# Altium footprint library PCB - LEADED - SOT-23 - TI SOT-23-16 DYY0016A.PcbLib: 1 footprints
Each footprint in its own frame and in the unit in brackets; x right, y up, seen from the top. Pads: shape width x height; smd on the part's side, far side on the other; paste and mask are expansions set on the pad; w line width, h text height; cw(c..) or ccw(c..) is an arc to the next point about the centre after c.
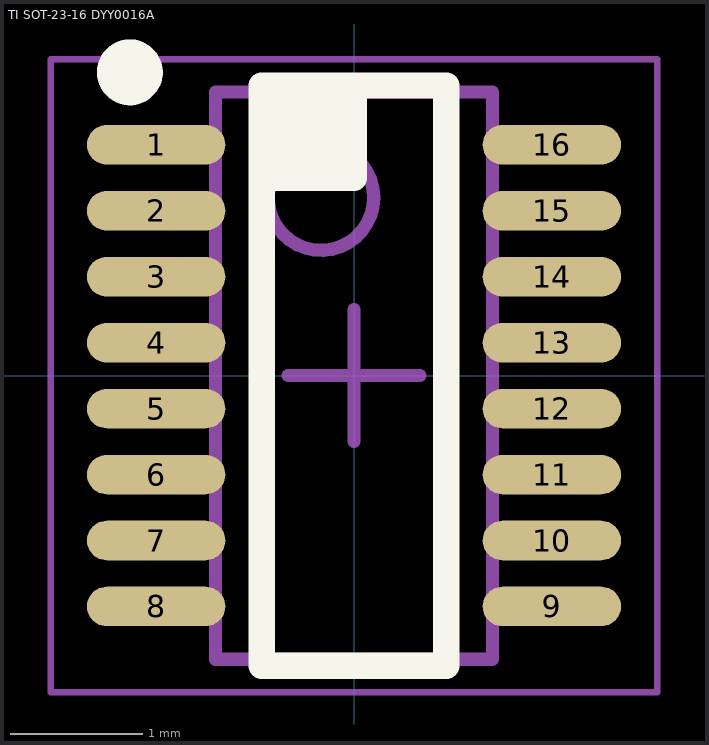
[diagram p0: the footprint, top view; thin cyan lines are the x and y axes]

## TI SOT-23-16 DYY0016A [mm] "SOT-23-THIN, 16-Leads, Body 4.20x2.00mm, Pitch 0.50mm"
height 1.1
pads (16):
  oval 1.05x0.3 smd: 1(-1.5,1.75) 2(-1.5,1.25) 3(-1.5,0.75) 4(-1.5,0.25) 5(-1.5,-0.25) 6(-1.5,-0.75) 7(-1.5,-1.25) 8(-1.5,-1.75) 9(1.5,-1.75) 10(1.5,-1.25) 11(1.5,-0.75) 12(1.5,-0.25) 13(1.5,0.25) 14(1.5,0.75) 15(1.5,1.25) 16(1.5,1.75)
Top Overlay:
  circle w0.25: c-1.7,2.3 r0.125
  rectangle: -0.7,1.5 0,2.2
  lines w0.2: -0.7,1.5 0,1.5 0,2.2 ; -0.7,-2.2 -0.7,2.2 0.7,2.2 0.7,-2.2 -0.7,-2.2
Mechanical 13:
  circle w0.1: c-0.25,1.35 r0.4
  lines w0.1: -1.05,-2.15 1.05,-2.15 1.05,2.15 -1.05,2.15 -1.05,-2.15
Mechanical 15:
  lines w0.05: -2.3,-2.4 2.3,-2.4 2.3,2.4 -2.3,2.4 -2.3,-2.4
Mechanical 2 (Mech9):
  lines w0.1: -0.5,0 0.5,0 ; 0,-0.5 0,0.5
3D body "TI SOT-23-16 DYY0016A.step": height 1.1, standoff 0, extent -1.63,-2.15 1.63,2.15